# EAGLE library part RS232 (library Projekt)
Multicomp RS232 Buchse
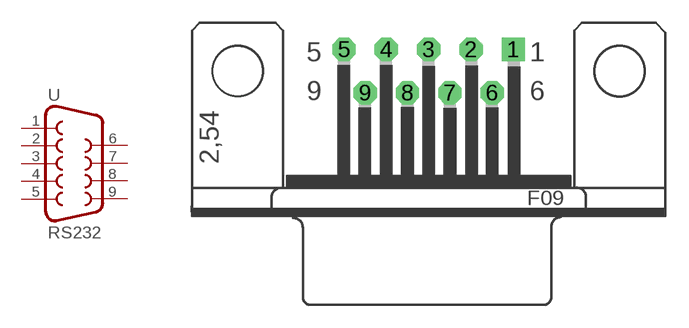
[diagram p16: symbol with the pads of F09-H; footprint F09-H]

Designator prefix -

## RS232  [F09-H]
1  1  pas
2  2  pas
3  3  pas
4  4  pas
5  5  pas
6  6  pas
7  7  pas
8  8  pas
9  9  pas

## Footprint F09-H (pad centres in mm)
SUB-D 9-pol
drill 1.016 square: 1 5.54,10.92
drill 1.016 octagon: 2 2.77,10.92; 3 0,10.92; 4 -2.77,10.92; 5 -5.54,10.92; 6 4.155,8.08; 7 1.385,8.08; 8 -1.385,8.08; 9 -4.155,8.08
hole 3.2 at 12.495,9.5
hole 3.2 at -12.495,9.5